# Altium footprint library Components.PcbLib: 18 footprints (part 2 of 2)
Each footprint in its own frame and in the unit in brackets; x right, y up, seen from the top. Pads: shape width x height; smd on the part's side, far side on the other; paste and mask are expansions set on the pad; w line width, h text height; cw(c..) or ccw(c..) is an arc to the next point about the centre after c.
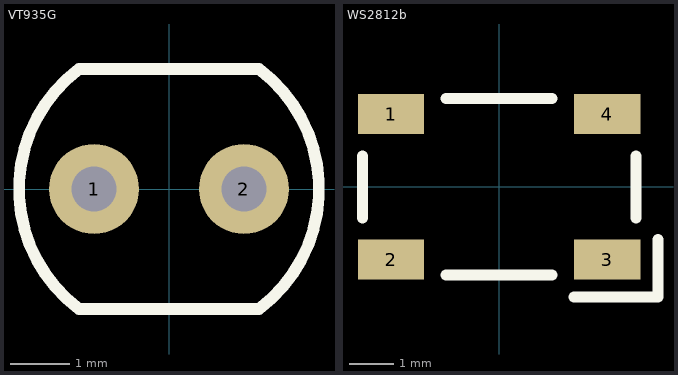
[diagram p1: the footprints below, top view; thin cyan lines are the x and y axes]

## VT935G [mil] "Photoconductive cell"
pads (2):
  round 60 hole 30: 1(-50,0) 2(50,0)
Top Overlay:
  lines w7.87: -60,-80 cw(c0,0) -60,80 60,80 cw(c0,0) 60,-80 -60,-80
3D body: height 70.08, standoff 0, extent -27.56,-75.79 35.43,73.82
3D body: height 70.08, standoff 0, extent -104.33,-75.49 44.69,73.82
3D body: height 70.08, standoff 0, extent -44.69,-75.49 104.33,73.82

## WS2812b [mm] "RGB Led"
pads (4):
  rect 1.5x0.9 smd: 1(-2.45,1.65) 2(-2.45,-1.65) 3(2.45,-1.65) 4(2.45,1.65)
Top Overlay:
  lines w0.254: -3.1,-0.7 -3.1,0.7 ; -1.2,-2 1.2,-2 ; -1.2,2 1.2,2 ; 1.7,-2.5 3.6,-2.5 3.6,-1.2 ; 3.1,-0.7 3.1,0.7
3D body: height 0.1, standoff 0, extent -2.9,1.2 2.9,2.1
3D body: height 0.1, standoff 0, extent -2.9,-2.1 2.9,-1.2
3D body: height 1.1, standoff 0, extent -2.183,-2.196 2.2,2.196
3D body: height 1, standoff 0, extent -2.5,-2.5 2.5,2.5